# Altium footprint library B3F_D_650X450.PcbLib: 1 footprints
Each footprint in its own frame and in the unit in brackets; x right, y up, seen from the top. Pads: shape width x height; smd on the part's side, far side on the other; paste and mask are expansions set on the pad; w line width, h text height; cw(c..) or ccw(c..) is an arc to the next point about the centre after c.
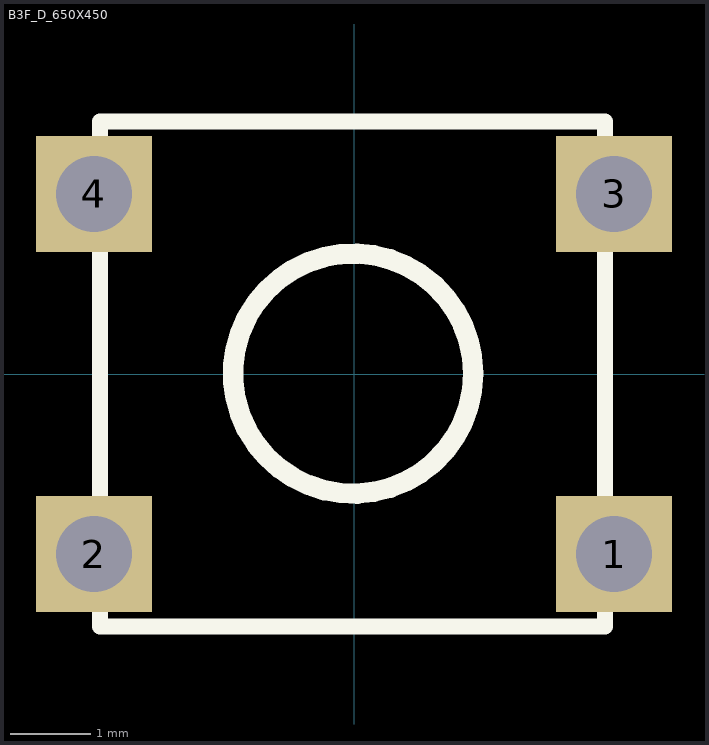
[diagram p0: the footprint, top view; thin cyan lines are the x and y axes]

## B3F_D_650X450 [mm] "Space-Saving Tactile Switch Provides"
pads (4):
  rect 1.45x1.45 hole 0.95: 1(3.25,-2.25) 2(-3.25,-2.25) 3(3.25,2.25) 4(-3.25,2.25)
Top Overlay:
  circle w0.254: c-0.012,0.006 r1.5
  lines w0.2: -3.172,-3.154 -3.172,3.156 3.138,3.156 3.138,-3.154 -3.172,-3.154
3D body: height 4.57, standoff 0, extent -1.511,-1.494 1.488,1.505
3D body: height 2.5, standoff 0, extent -3.171,-3.154 3.138,3.155